# Altium footprint library RND0036A.PcbLib: 1 footprints
Each footprint in its own frame and in the unit in brackets; x right, y up, seen from the top. Pads: shape width x height; smd on the part's side, far side on the other; paste and mask are expansions set on the pad; w line width, h text height; cw(c..) or ccw(c..) is an arc to the next point about the centre after c.
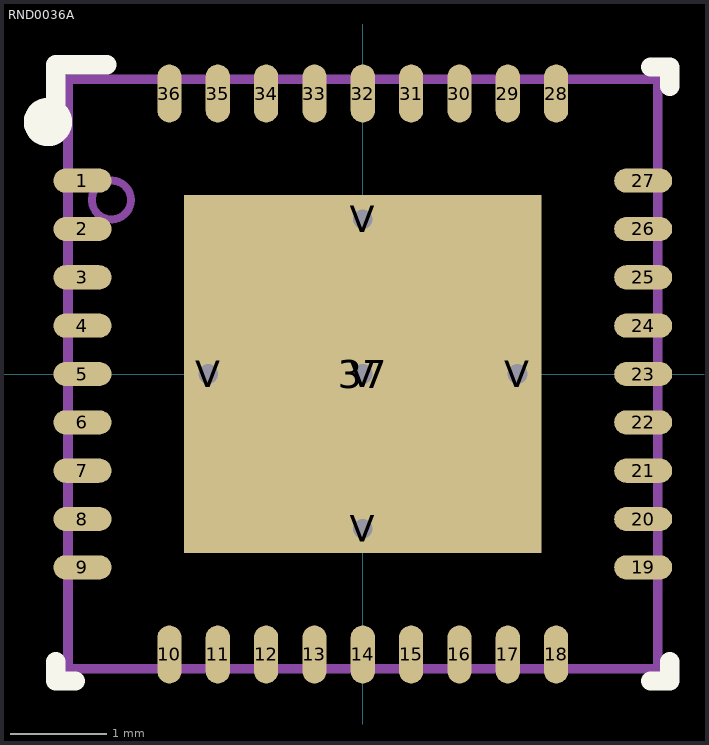
[diagram p0: the footprint, top view; thin cyan lines are the x and y axes]

## RND0036A [mm]
pads (42):
  oval 0.6x0.25 smd paste+0 mask+0: 1(-2.9,2) 2(-2.9,1.5) 3(-2.9,1) 4(-2.9,0.5) 5(-2.9,0) 6(-2.9,-0.5) 7(-2.9,-1) 8(-2.9,-1.5) 9(-2.9,-2) 19(2.9,-2) 20(2.9,-1.5) 21(2.9,-1) 22(2.9,-0.5) 23(2.9,0) 24(2.9,0.5) 25(2.9,1) 26(2.9,1.5) 27(2.9,2)
  oval 0.25x0.6 smd paste+0 mask+0: 10(-2,-2.9) 11(-1.5,-2.9) 12(-1,-2.9) 13(-0.5,-2.9) 14(0,-2.9) 15(0.5,-2.9) 16(1,-2.9) 17(1.5,-2.9) 18(2,-2.9) 28(2,2.9) 29(1.5,2.9) 30(1,2.9) 31(0.5,2.9) 32(0,2.9) 33(-0.5,2.9) 34(-1,2.9) 35(-1.5,2.9) 36(-2,2.9)
  rect 3.7x3.7 smd paste-1.85 mask+0: 37(0,0)
  round 0.5 hole 0.203 mask+0: V(-1.6,0) V(0,-1.6) V(0,0) V(0,1.6) V(1.6,0)
Top Overlay:
  circle w0.25: c-3.257,2.607 r0.125
  lines w0.2: -3.175,-2.975 -3.175,-3.175 -2.975,-3.175 ; -3.175,2.65 -3.175,3.2 -2.65,3.2 ; 2.975,-3.175 3.175,-3.175 3.175,-2.975 ; 2.975,3.175 3.175,3.175 3.175,2.975
Top Paste:
  region: 0.1,-0.1 0.1,-1.68 1.68,-1.68 1.68,-0.1
  region: -0.1,-1.68 -0.1,-0.1 -1.68,-0.1 -1.68,-1.68
  region: -0.1,0.1 -0.1,1.68 -1.68,1.68 -1.68,0.1
  region: 0.1,1.68 0.1,0.1 1.68,0.1 1.68,1.68
Mechanical 13:
  circle w0.08: c-2.6,1.8 r0.202
  lines w0.1: -3.05,-3.05 -3.05,3.05 3.05,3.05 3.05,-3.05 -3.05,-3.05
3D body: height 0.25, standoff 0, extent 0,0 0.254,0.254
3D body "RND0036A.stp": height 0.8, standoff -0.05, extent -3,-3 3,3